# Altium schematic symbol library Infrared.SchLib: 1 symbol
Pins are listed as number, name and electrical type; pins without a type are passive.

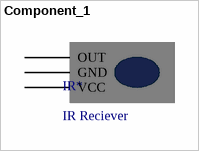
[diagram p0: symbol Component_1]

## Component_1
designator IR*, comment IR Reciever
38kHz Infrared reciever module; Parameter 1: *
footprint IR (IR Reciever)
footprint IR smd - duplicate (TSOP77238TR); pin to pad 0>3 1>1+4
pins: 0 OUT, 1 GND, 2 VCC